# Altium integrated library 28xxxx.IntLib: 8 symbols
Pins are listed as number, name and electrical type; pins without a type are passive.

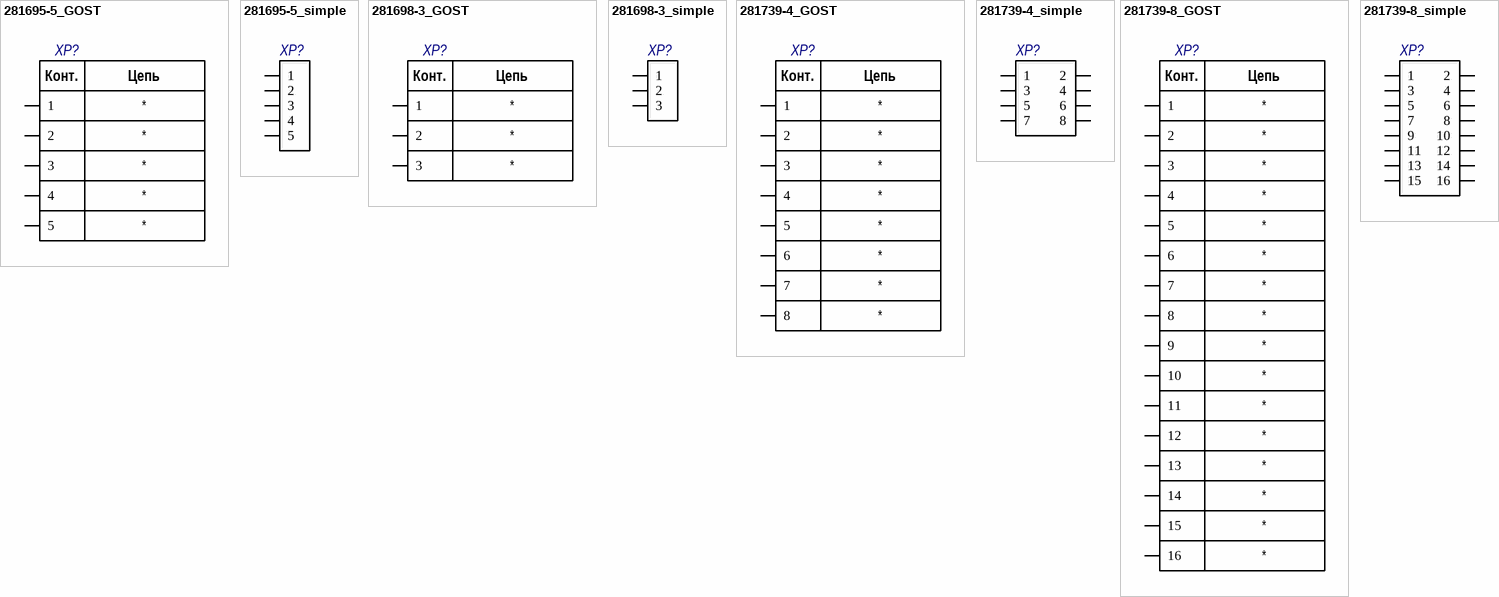
[diagram p0: symbols 281695-5_GOST to 281739-8_simple]

## 281695-5_GOST
designator XP?
Net5: *; Net4: *; Net3: *; Net2: *; Net1: *
footprint 281695-5
pins: 1, 2, 3, 4, 5
text: Конт.; Цепь

## 281695-5_simple
designator XP?  (value not drawn)
footprint 281695-5
pins: 1, 2, 3, 4, 5

## 281698-3_GOST
designator XP?
RA w-t-b connector; Net3: *; Net2: *; Net1: *
footprint 281698-3
pins: 1, 2, 3
text: Конт.; Цепь

## 281698-3_simple
designator XP?  (value not drawn)
RA w-t-b connector
footprint 281698-3
pins: 1, 2, 3

## 281739-4_GOST
designator XP?
Net8: *; Net7: *; Net6: *; Net5: *; Net4: *; Net3: *; Net2: *; Net1: *
footprint 281739-4
pins: 1, 2, 3, 4, 5, 6, 7, 8
text: Конт.; Цепь

## 281739-4_simple
designator XP?  (value not drawn)
footprint 281739-4
pins: 1, 2, 3, 4, 5, 6, 7, 8

## 281739-8_GOST
designator XP?
Net16: *; Net15: *; Net14: *; Net13: *; Net12: *; Net11: *; Net10: *; Net9: *; Net8: *; Net7: *; Net6: *; Net5: *; Net4: *; Net3: *; Net2: *; Net1: *
footprint 281739-8
pins: 1, 2, 3, 4, 5, 6, 7, 8, 9, 10, 11, 12, 13, 14, 15, 16
text: Конт.; Цепь

## 281739-8_simple
designator XP?  (value not drawn)
footprint 281739-8
pins: 1, 2, 3, 4, 5, 6, 7, 8, 9, 10, 11, 12, 13, 14, 15, 16